# Altium schematic symbol library Switch.SchLib: 1 symbol
Pins are listed as number, name and electrical type; pins without a type are passive.

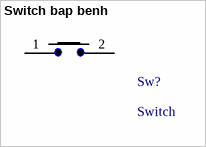
[diagram p0: symbol Switch bap benh]

## Switch bap benh
designator Sw?, comment Switch
cam
footprint Switch bap benh
pins: 1, 2